# EAGLE library part MA06-2J (library joakim)
PIN HEADER
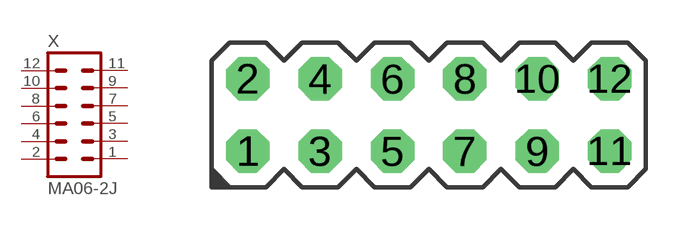
[diagram p13: symbol with the pads of MA06-2J; footprint MA06-2J]

Designator prefix X

## MA06-2J (OC_FARNELL: unknown; OC_NEWARK: unknown)  [MA06-2J]
1  1  pas
2  2  pas
3  3  pas
4  4  pas
5  5  pas
6  6  pas
7  7  pas
8  8  pas
9  9  pas
10  10  pas
11  11  pas
12  12  pas

## Footprint MA06-2J (pad centres in mm)
PIN HEADER
drill 1.016 octagon: 1 -6.35,-1.27; 2 -6.35,1.27; 3 -3.81,-1.27; 4 -3.81,1.27; 5 -1.27,-1.27; 6 -1.27,1.27; 7 1.27,-1.27; 8 1.27,1.27; 9 3.81,-1.27; 10 3.81,1.27; 11 6.35,-1.27; 12 6.35,1.27